# EAGLE library part MAX3232CSE+ (library custom_library)
Check availability <https://pricing.snapeda.com/parts/MAX3232CSE%2B/Analog%20Devices/view-part?ref=eda>
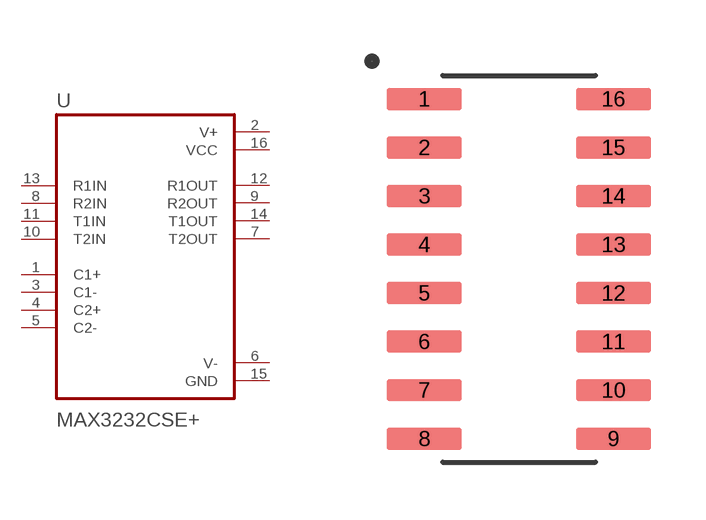
[diagram p11: symbol with the pads of SOIC127P600X175-16N; footprint SOIC127P600X175-16N]

Designator prefix U

## MAX3232CSE+ (AVAILABILITY: In Stock; CHECK_PRICES: https://www.snapeda.com/parts/MAX3232CSE+/Analog+Devices/view-part/?ref=eda; DESCRIPTION: 3.0V to 5.5V, Low-Power, Up to 1Mbps, True RS-232 Transceivers; MF: Analog Devices; MP: MAX3232CSE+; PACKAGE: SOIC-16 Maxim Integrated; PRICE: None; SNAPEDA_LINK: https://www.snapeda.com/parts/MAX3232CSE+/Analog+Devices/view-part/?ref=snap)  [SOIC127P600X175-16N]
1  C1+
2  V+  pwr
3  C1-
4  C2+
5  C2-
6  V-  pwr
7  T2OUT  out
8  R2IN  in
9  R2OUT  out
10  T2IN  in
11  T1IN  in
12  R1OUT  out
13  R1IN  in
14  T1OUT  out
15  GND  pwr
16  VCC  pwr

## Footprint SOIC127P600X175-16N (pad centres in mm)
smd 1.97 x 0.59: 1 -2.475,4.445; 2 -2.475,3.175; 3 -2.475,1.905; 4 -2.475,0.635; 5 -2.475,-0.635; 6 -2.475,-1.905; 7 -2.475,-3.175; 8 -2.475,-4.445; 9 2.475,-4.445; 10 2.475,-3.175; 11 2.475,-1.905; 12 2.475,-0.635; 13 2.475,0.635; 14 2.475,1.905; 15 2.475,3.175; 16 2.475,4.445